# Altium footprint library DS_Lib.PcbLib: 69 footprints (part 4 of 5)
Each footprint in its own frame and in the unit in brackets; x right, y up, seen from the top. Pads: shape width x height; smd on the part's side, far side on the other; paste and mask are expansions set on the pad; w line width, h text height; cw(c..) or ccw(c..) is an arc to the next point about the centre after c.
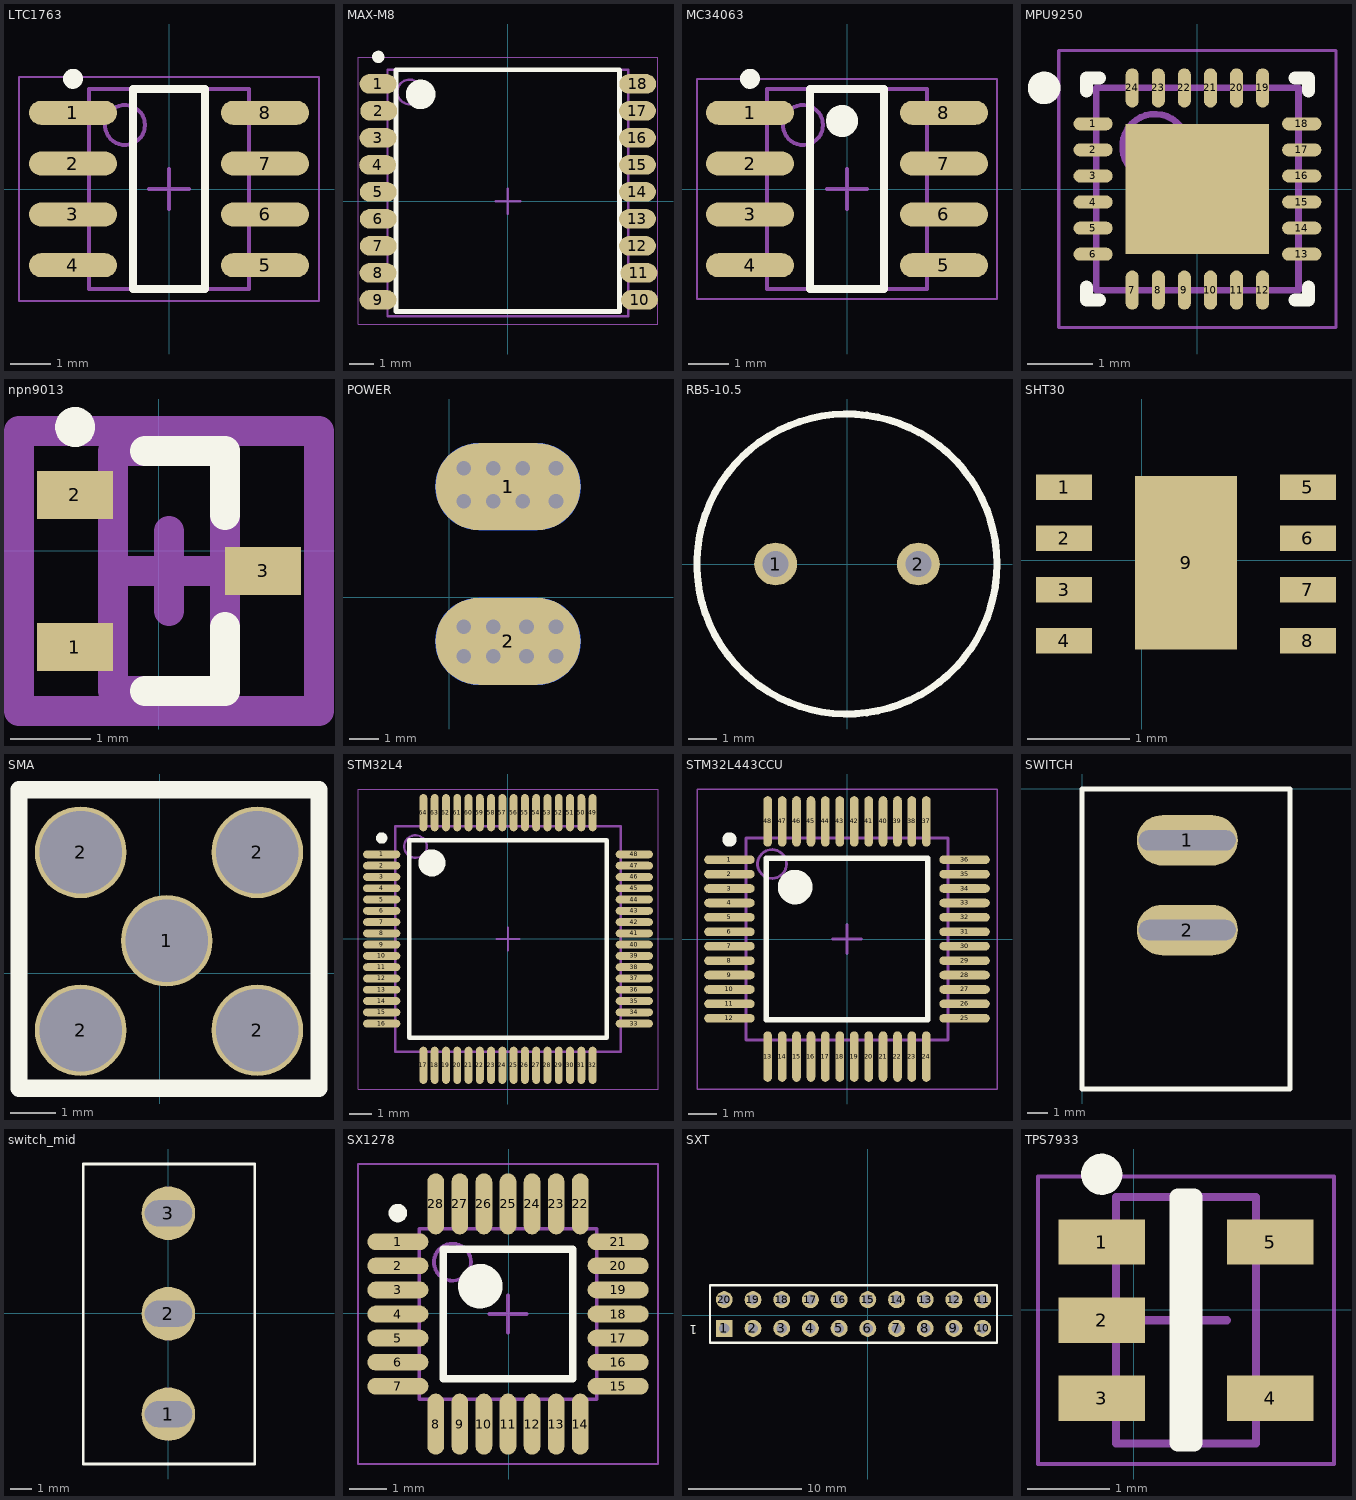
[diagram p3: the footprints below, top view; thin cyan lines are the x and y axes]

## LTC1763 [mm] "SOIC, 8-Leads, Body 4.90x3.90mm, Pitch 1.27mm, IPC Medium Density"
height 1.34
pads (8):
  oval 2.2x0.6 smd: 1(-2.4,1.905) 2(-2.4,0.635) 3(-2.4,-0.635) 4(-2.4,-1.905) 5(2.4,-1.905) 6(2.4,-0.635) 7(2.4,0.635) 8(2.4,1.905)
Top Overlay:
  circle w0.25: c-2.4,2.755 r0.125
  lines w0.2: -0.9,-2.5 0.9,-2.5 0.9,2.5 -0.9,2.5 -0.9,-2.5
Mechanical 13:
  circle w0.1: c-1.1,1.6 r0.5
  lines w0.1: -2,-2.5 2,-2.5 2,2.5 -2,2.5 -2,-2.5
Mechanical 15:
  lines w0.05: -3.75,-2.8 3.75,-2.8 3.75,2.8 -3.75,2.8 -3.75,-2.8
  lines w0.1: -0.5,0 0.5,0 ; 0,-0.5 0,0.5
3D body: height 1.34, standoff 0.2, extent -2,-2.5 2,2.5

## MAX-M8 [mm] "SOJ, 18-Leads, Body 10.70x9.80mm, Pitch 1.20mm, IPC Low Density"
height 2.7
pads (18):
  oval 1.5x0.8 smd: 1(-5.283,4.775) 2(-5.258,3.677) 3(-5.283,2.578) 4(-5.3,1.48) 5(-5.275,0.381) 6(-5.275,-0.718) 7(-5.275,-1.816) 8(-5.283,-2.915) 9(-5.283,-4.013) 10(5.359,-4.013) 11(5.334,-2.915) 12(5.275,-1.816) 13(5.275,-0.718) 14(5.275,0.381) 15(5.275,1.48) 16(5.275,2.578) 17(5.275,3.677) 18(5.283,4.775)
Top Overlay:
  circle w0.25: c-5.275,5.875 r0.125
  circle w0.6: c-3.55,4.35 r0.3
  lines w0.2: -4.55,-4.496 -4.55,5.35 4.55,5.35 4.55,-4.496 -4.55,-4.496
Mechanical 13:
  circle w0.1: c-4,4.45 r0.5
  lines w0.1: -4.9,-4.674 -4.9,5.35 4.9,5.35 4.9,-4.674 -4.9,-4.674
Mechanical 15:
  lines w0.05: -6.1,-5.004 -6.1,5.85 6.1,5.85 6.1,-5.004 -6.1,-5.004
  lines w0.1: -0.5,0 0.5,0 ; 0,-0.5 0,0.5
3D body: height 2.7, standoff 0.01, extent -4.9,-4.699 4.9,5.35

## MC34063 [mm] "SOIC, 8-Leads, Body 4.90x3.90mm, Pitch 1.27mm, IPC Medium Density"
height 1.5
pads (8):
  oval 2.2x0.6 smd: 1(-2.425,1.905) 2(-2.425,0.635) 3(-2.425,-0.635) 4(-2.425,-1.905) 5(2.425,-1.905) 6(2.425,-0.635) 7(2.425,0.635) 8(2.425,1.905)
Top Overlay:
  circle w0.4: c-0.125,1.7 r0.2
  circle w0.25: c-2.425,2.755 r0.125
  lines w0.2: -0.925,-2.5 0.925,-2.5 0.925,2.5 -0.925,2.5 -0.925,-2.5
Mechanical 13:
  circle w0.1: c-1.1,1.6 r0.5
  lines w0.1: -2,-2.5 2,-2.5 2,2.5 -2,2.5 -2,-2.5
Mechanical 15:
  lines w0.05: -3.75,-2.75 3.75,-2.75 3.75,2.75 -3.75,2.75 -3.75,-2.75
  lines w0.1: -0.5,0 0.5,0 ; 0,-0.5 0,0.5
3D body: height 1.5, standoff 0.2, extent -2,-2.5 2,2.5

## MPU9250 [mm]
pads (25):
  oval 0.6x0.2 smd: 1(-1.6,1) 2(-1.6,0.6) 3(-1.6,0.2) 4(-1.6,-0.2) 5(-1.6,-0.6) 6(-1.6,-1) 13(1.6,-1) 14(1.6,-0.6) 15(1.6,-0.2) 16(1.6,0.2) 17(1.6,0.6) 18(1.6,1)
  oval 0.2x0.6 smd: 7(-1,-1.55) 8(-0.6,-1.55) 9(-0.2,-1.55) 10(0.2,-1.55) 11(0.6,-1.55) 12(1,-1.55) 19(1,1.55) 20(0.6,1.55) 21(0.2,1.55) 22(-0.2,1.55) 23(-0.6,1.55) 24(-1,1.55)
  rect 2.2x2 smd: ""(0,0)
Top Overlay:
  circle w0.25: c-2.35,1.55 r0.125
  lines w0.2: -1.7,-1.5 -1.7,-1.7 -1.5,-1.7 ; -1.7,1.5 -1.7,1.7 -1.5,1.7 ; 1.5,-1.7 1.7,-1.7 1.7,-1.5 ; 1.5,1.7 1.7,1.7 1.7,1.5
Mechanical 13:
  circle w0.1: c-0.65,0.65 r0.5
  lines w0.1: -1.55,-1.55 1.55,-1.55 1.55,1.55 -1.55,1.55 -1.55,-1.55
Mechanical 15:
  lines w0.05: -2.125,-2.125 2.125,-2.125 2.125,2.125 -2.125,2.125 -2.125,-2.125
  lines w0.1: -0.5,0 0.5,0 ; 0,-0.5 0,0.5
3D body: height 1, standoff 0.02, extent -1.55,-1.55 1.55,1.55

## npn9013 [mm]
pads (3):
  rect 0.95x0.6 smd: 1(-1.048,-1.204) 2(-1.048,0.696) 3(1.302,-0.254)
Top Overlay:
  circle w0.25: c-1.048,1.546 r0.125
  lines w0.381: -0.173,-1.754 0.827,-1.754 0.827,-0.954 ; -0.173,1.246 0.827,1.246 0.827,0.446
Mechanical 13:
  lines w0.381: -0.573,-1.754 0.827,-1.754 0.827,1.246 -0.573,1.246 -0.573,-1.754
Mechanical 15:
  lines w0.381: -0.373,-0.254 0.627,-0.254 ; 0.127,-0.754 0.127,0.246 ; -1.748,-2.004 2.002,-2.004 2.002,1.496 -1.748,1.496 -1.748,-2.004
3D body: height 1.1, standoff 0.05, extent -0.573,-1.754 0.827,1.246

## POWER [mm]
pads (4):
  oval 5x3 smd: 1(2.032,3.81) 2(2.032,-1.524)
  oval 5x3 smd far side: 1(2.032,3.81) 2(2.032,-1.524)
via 3.683,-2.032 diameter 0.762 hole 0.508
via 3.683,-1.016 diameter 0.762 hole 0.508
via 2.54,3.302 diameter 0.762 hole 0.508
via 2.54,4.445 diameter 0.762 hole 0.508
via 2.667,-2.032 diameter 0.762 hole 0.508
via 2.667,-1.016 diameter 0.762 hole 0.508
via 1.524,-2.032 diameter 0.762 hole 0.508
via 1.524,-1.016 diameter 0.762 hole 0.508
via 0.508,-2.032 diameter 0.762 hole 0.508
via 1.524,3.302 diameter 0.762 hole 0.508
via 1.524,4.445 diameter 0.762 hole 0.508
via 3.683,4.445 diameter 0.762 hole 0.508
via 0.508,3.302 diameter 0.762 hole 0.508
via 0.508,4.445 diameter 0.762 hole 0.508
via 0.508,-1.016 diameter 0.762 hole 0.508
via 3.683,3.302 diameter 0.762 hole 0.508

## RB5-10.5 [mm] "Capacitor (Radial); 2 Leads"
pads (2):
  round 1.5 hole 0.9: 1(-2.5,0) 2(2.5,0)
Top Overlay:
  circle w0.25: c0,0 r5.25
Mechanical 1:
  circle w0.02: c0,0 r5.25

## SHT30 [mm]
pads (9):
  rect 0.55x0.25 smd: 1(-0.762,0.713) 2(-0.762,0.213) 3(-0.762,-0.287) 4(-0.762,-0.787) 5(1.626,0.713) 6(1.626,0.213) 7(1.626,-0.287) 8(1.626,-0.787)
  rect 1x1.7 smd: 9(0.432,-0.025)

## SMA [mm]
pads (5):
  round 2 hole 1.8: 1(0.152,0.711) 2(-1.727,-1.245) 2(-1.727,2.642) 2(2.134,-1.245) 2(2.134,2.642)
Top Overlay:
  lines w0.381: -1.389,-2.515 3.48,-2.515 ; 3.48,-2.515 3.48,4.013 -3.073,4.013 -3.073,-2.515 3.48,-2.515

## STM32L4 [mm] "STM32L4"
height 1.6
pads (64):
  oval 1.65x0.35 smd: 1(-5.6,3.75) 2(-5.6,3.25) 3(-5.6,2.75) 4(-5.6,2.25) 5(-5.6,1.75) 6(-5.6,1.25) 7(-5.6,0.75) 8(-5.6,0.25) 9(-5.6,-0.25) 10(-5.6,-0.75) 11(-5.6,-1.25) 12(-5.6,-1.75) 13(-5.6,-2.25) 14(-5.6,-2.75) 15(-5.6,-3.25) 16(-5.6,-3.75) 33(5.6,-3.75) 34(5.6,-3.25) 35(5.6,-2.75) 36(5.6,-2.25) 37(5.6,-1.75) 38(5.6,-1.25) 39(5.6,-0.75) 40(5.6,-0.25) 41(5.6,0.25) 42(5.6,0.75) 43(5.6,1.25) 44(5.6,1.75) 45(5.6,2.25) 46(5.6,2.75) 47(5.6,3.25) 48(5.6,3.75)
  oval 0.35x1.65 smd: 17(-3.75,-5.6) 18(-3.25,-5.6) 19(-2.75,-5.6) 20(-2.25,-5.6) 21(-1.75,-5.6) 22(-1.25,-5.6) 23(-0.75,-5.6) 24(-0.25,-5.6) 25(0.25,-5.6) 26(0.75,-5.6) 27(1.25,-5.6) 28(1.75,-5.6) 29(2.25,-5.6) 30(2.75,-5.6) 31(3.25,-5.6) 32(3.75,-5.6) 49(3.75,5.6) 50(3.25,5.6) 51(2.75,5.6) 52(2.25,5.6) 53(1.75,5.6) 54(1.25,5.6) 55(0.75,5.6) 56(0.25,5.6) 57(-0.25,5.6) 58(-0.75,5.6) 59(-1.25,5.6) 60(-1.75,5.6) 61(-2.25,5.6) 62(-2.75,5.6) 63(-3.25,5.6) 64(-3.75,5.6)
Top Overlay:
  circle w0.25: c-5.6,4.475 r0.125
  circle w0.6: c-3.375,3.375 r0.3
  lines w0.2: -4.375,-4.375 -4.375,4.375 4.375,4.375 4.375,-4.375 -4.375,-4.375
Mechanical 13:
  circle w0.1: c-4.1,4.1 r0.5
  lines w0.1: -5,-5 -5,5 5,5 5,-5 -5,-5
Mechanical 15:
  lines w0.05: -6.65,-6.65 -6.65,6.65 6.65,6.65 6.65,-6.65 -6.65,-6.65
  lines w0.1: -0.5,0 0.5,0 ; 0,-0.5 0,0.5
3D body: height 1.6, standoff 0.05, extent -5,-5 5,5

## STM32L443CCU [mm] "TSQFP, 48-Leads, Body 7.00x7.00mm, Pitch 0.50mm, IPC Medium Density"
height 1.6
pads (48):
  oval 1.75x0.3 smd: 1(-4.075,2.75) 2(-4.075,2.25) 3(-4.075,1.75) 4(-4.075,1.25) 5(-4.075,0.75) 6(-4.075,0.25) 7(-4.075,-0.25) 8(-4.075,-0.75) 9(-4.075,-1.25) 10(-4.075,-1.75) 11(-4.075,-2.25) 12(-4.075,-2.75) 25(4.075,-2.75) 26(4.075,-2.25) 27(4.075,-1.75) 28(4.075,-1.25) 29(4.075,-0.75) 30(4.075,-0.25) 31(4.075,0.25) 32(4.075,0.75) 33(4.075,1.25) 34(4.075,1.75) 35(4.075,2.25) 36(4.075,2.75)
  oval 0.3x1.75 smd: 13(-2.75,-4.075) 14(-2.25,-4.075) 15(-1.75,-4.075) 16(-1.25,-4.075) 17(-0.75,-4.075) 18(-0.25,-4.075) 19(0.25,-4.075) 20(0.75,-4.075) 21(1.25,-4.075) 22(1.75,-4.075) 23(2.25,-4.075) 24(2.75,-4.075) 37(2.75,4.075) 38(2.25,4.075) 39(1.75,4.075) 40(1.25,4.075) 41(0.75,4.075) 42(0.25,4.075) 43(-0.25,4.075) 44(-0.75,4.075) 45(-1.25,4.075) 46(-1.75,4.075) 47(-2.25,4.075) 48(-2.75,4.075)
Top Overlay:
  circle w0.25: c-4.075,3.45 r0.125
  circle w0.6: c-1.8,1.8 r0.3
  lines w0.2: -2.8,-2.8 -2.8,2.8 2.8,2.8 2.8,-2.8 -2.8,-2.8
Mechanical 13:
  circle w0.1: c-2.6,2.6 r0.5
  lines w0.1: -3.5,-3.5 -3.5,3.5 3.5,3.5 3.5,-3.5 -3.5,-3.5
Mechanical 15:
  lines w0.05: -5.2,-5.2 -5.2,5.2 5.2,5.2 5.2,-5.2 -5.2,-5.2
  lines w0.1: -0.5,0 0.5,0 ; 0,-0.5 0,0.5
3D body: height 1.6, standoff 0.05, extent -3.5,-3.5 3.5,3.5

## SWITCH [mm]
pads (2):
  oval 5x2.5 hole 1 slot 4.8 at 0 deg: 1(5.207,-2.54) 2(5.207,-6.985)
Top Overlay:
  lines w0.254: 0,-14.859 10.287,-14.859 10.287,0 0,0 0,-14.859

## switch_mid [mm]
pads (3):
  round 2.5 hole 1.2 slot 2.2 at 0 deg: 1(0,-4.712) 2(0,-0.025) 3(0,4.661)
Top Overlay:
  lines w0.127: -3.975,-7.038 -3.975,6.962 4.025,6.962 4.025,-7.038 -3.975,-7.038

## SX1278 [mm] "QFN, 24-Leads, Body 3.00x3.00mm, Pitch 0.40mm, Thermal Pad 2.00x2.20mm, IPC Medium Density"
height 1
pads (28):
  oval 1.65x0.45 smd: 1(-3,1.925) 2(-3,1.275) 3(-3,0.625) 4(-3,-0.025) 5(-3,-0.675) 6(-3,-1.325) 7(-3,-1.975) 15(2.95,-1.975) 16(2.95,-1.325) 17(2.95,-0.675) 18(2.95,-0.025) 19(2.95,0.625) 20(2.95,1.275) 21(2.95,1.925)
  oval 0.45x1.65 smd: 8(-1.975,-3) 9(-1.325,-3) 10(-0.675,-3) 11(-0.025,-3) 12(0.625,-3) 13(1.275,-3) 14(1.925,-3) 22(1.925,2.95) 23(1.275,2.95) 24(0.625,2.95) 25(-0.025,2.95) 26(-0.675,2.95) 27(-1.325,2.95) 28(-1.975,2.95)
Top Overlay:
  circle w0.25: c-3,2.7 r0.125
  circle w0.6: c-0.775,0.725 r0.3
  lines w0.2: -1.775,-1.775 -1.775,1.725 1.725,1.725 1.725,-1.775 -1.775,-1.775
Mechanical 13:
  circle w0.1: c-1.525,1.375 r0.5
  lines w0.1: -2.425,-2.325 -2.425,2.275 2.375,2.275 2.375,-2.325 -2.425,-2.325
Mechanical 15:
  lines w0.05: -4.075,-4.075 -4.075,4.025 4.025,4.025 4.025,-4.075 -4.075,-4.075
  lines w0.1: -0.525,-0.025 0.475,-0.025 ; -0.025,-0.525 -0.025,0.475
3D body: height 1.6, standoff 0.05, extent -2.425,-2.325 2.375,2.275

## SXT [mm]
pads (20):
  rect 1.5x1.5 hole 0.9: 1(-12.675,-1.168)
  round 1.5 hole 0.9: 2(-10.135,-1.168) 3(-7.595,-1.168) 4(-5.055,-1.168) 5(-2.515,-1.168) 6(0.025,-1.168) 7(2.565,-1.168) 8(5.105,-1.168) 9(7.645,-1.168) 10(10.185,-1.168) 11(10.185,1.372) 12(7.645,1.372) 13(5.105,1.372) 14(2.565,1.372) 15(0.025,1.372) 16(-2.515,1.372) 17(-5.055,1.372) 18(-7.595,1.372) 19(-10.135,1.372) 20(-12.675,1.372)
Top Overlay:
  lines w0.2: -13.945,-2.438 -12.04,-2.438 11.455,-2.438 11.455,2.642 -12.04,2.642 -13.945,2.642 -13.945,-2.438
  text "1" at -15.088,-0.914 h0.76

## TPS7933 [mm]
pads (5):
  rect 1.05x0.55 smd: 1(-0.39,0.823) 2(-0.39,-0.127) 3(-0.39,-1.077) 4(1.66,-1.077) 5(1.66,0.823)
Top Overlay:
  circle w0.25: c-0.39,1.648 r0.125
  lines w0.2: 0.535,-1.627 0.735,-1.627 0.735,1.373 0.535,1.373 0.535,-1.627
Mechanical 13:
  lines w0.1: -0.215,-1.627 -0.215,1.373 1.485,1.373 1.485,-1.627 -0.215,-1.627
Mechanical 15:
  lines w0.05: -1.165,-1.877 -1.165,1.623 2.435,1.623 2.435,-1.877 -1.165,-1.877
  lines w0.1: 0.135,-0.127 1.135,-0.127 ; 0.635,-0.627 0.635,0.373
3D body: height 1.45, standoff 0.15, extent -0.215,-1.627 1.485,1.373